# EAGLE library part AX5243 (library radio_transceivers)
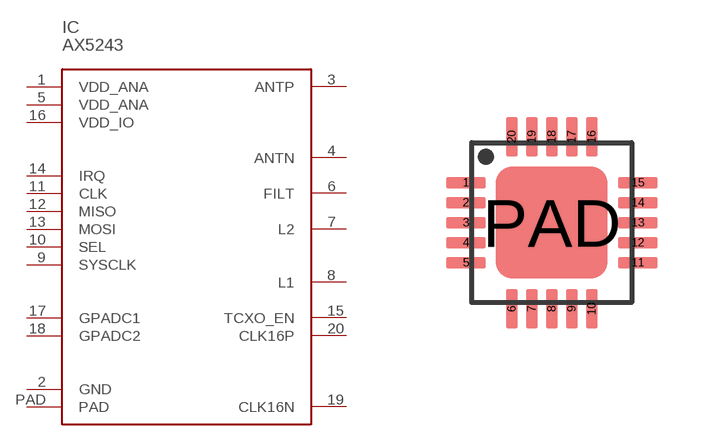
[diagram p0: symbol with the pads of QFN20; footprint QFN20]

Designator prefix IC

## AX5243  [QFN20]
1  VDD_ANA
2  GND
3  ANTP
4  ANTN
5  VDD_ANA
6  FILT
7  L2
8  L1
9  SYSCLK
10  SEL
11  CLK
12  MISO
13  MOSI
14  IRQ
15  TCXO_EN
16  VDD_IO
17  GPADC1
18  GPADC2
19  CLK16N
20  CLK16P
PAD  PAD

## Footprint QFN20 (pad centres in mm)
smd 1 x 0.3: 1 -2.15,1; 2 -2.15,0.5; 3 -2.15,0; 4 -2.15,-0.5; 5 -2.15,-1; 11 2.15,-1; 12 2.15,-0.5; 13 2.15,0; 14 2.15,0.5; 15 2.15,1
smd 0.3 x 1: 6 -1,-2.15; 7 -0.5,-2.15; 8 0,-2.15; 9 0.5,-2.15; 10 1,-2.15; 16 1,2.15; 17 0.5,2.15; 18 0,2.15; 19 -0.5,2.15; 20 -1,2.15
smd 2.8 x 2.8: PAD 0,0